# Altium schematic symbol library J_RECEPTACLE.Schlib: 1 symbol
Pins are listed as number, name and electrical type; pins without a type are passive.

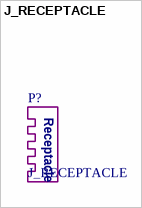
[diagram p0: symbol J_RECEPTACLE]

## J_RECEPTACLE
designator P?
Header, 3-Pin
text: Receptacle